# Altium integrated library TI Data Converters Digital to Analog Converter.IntLib: 1533 symbols (part 42 of 99)
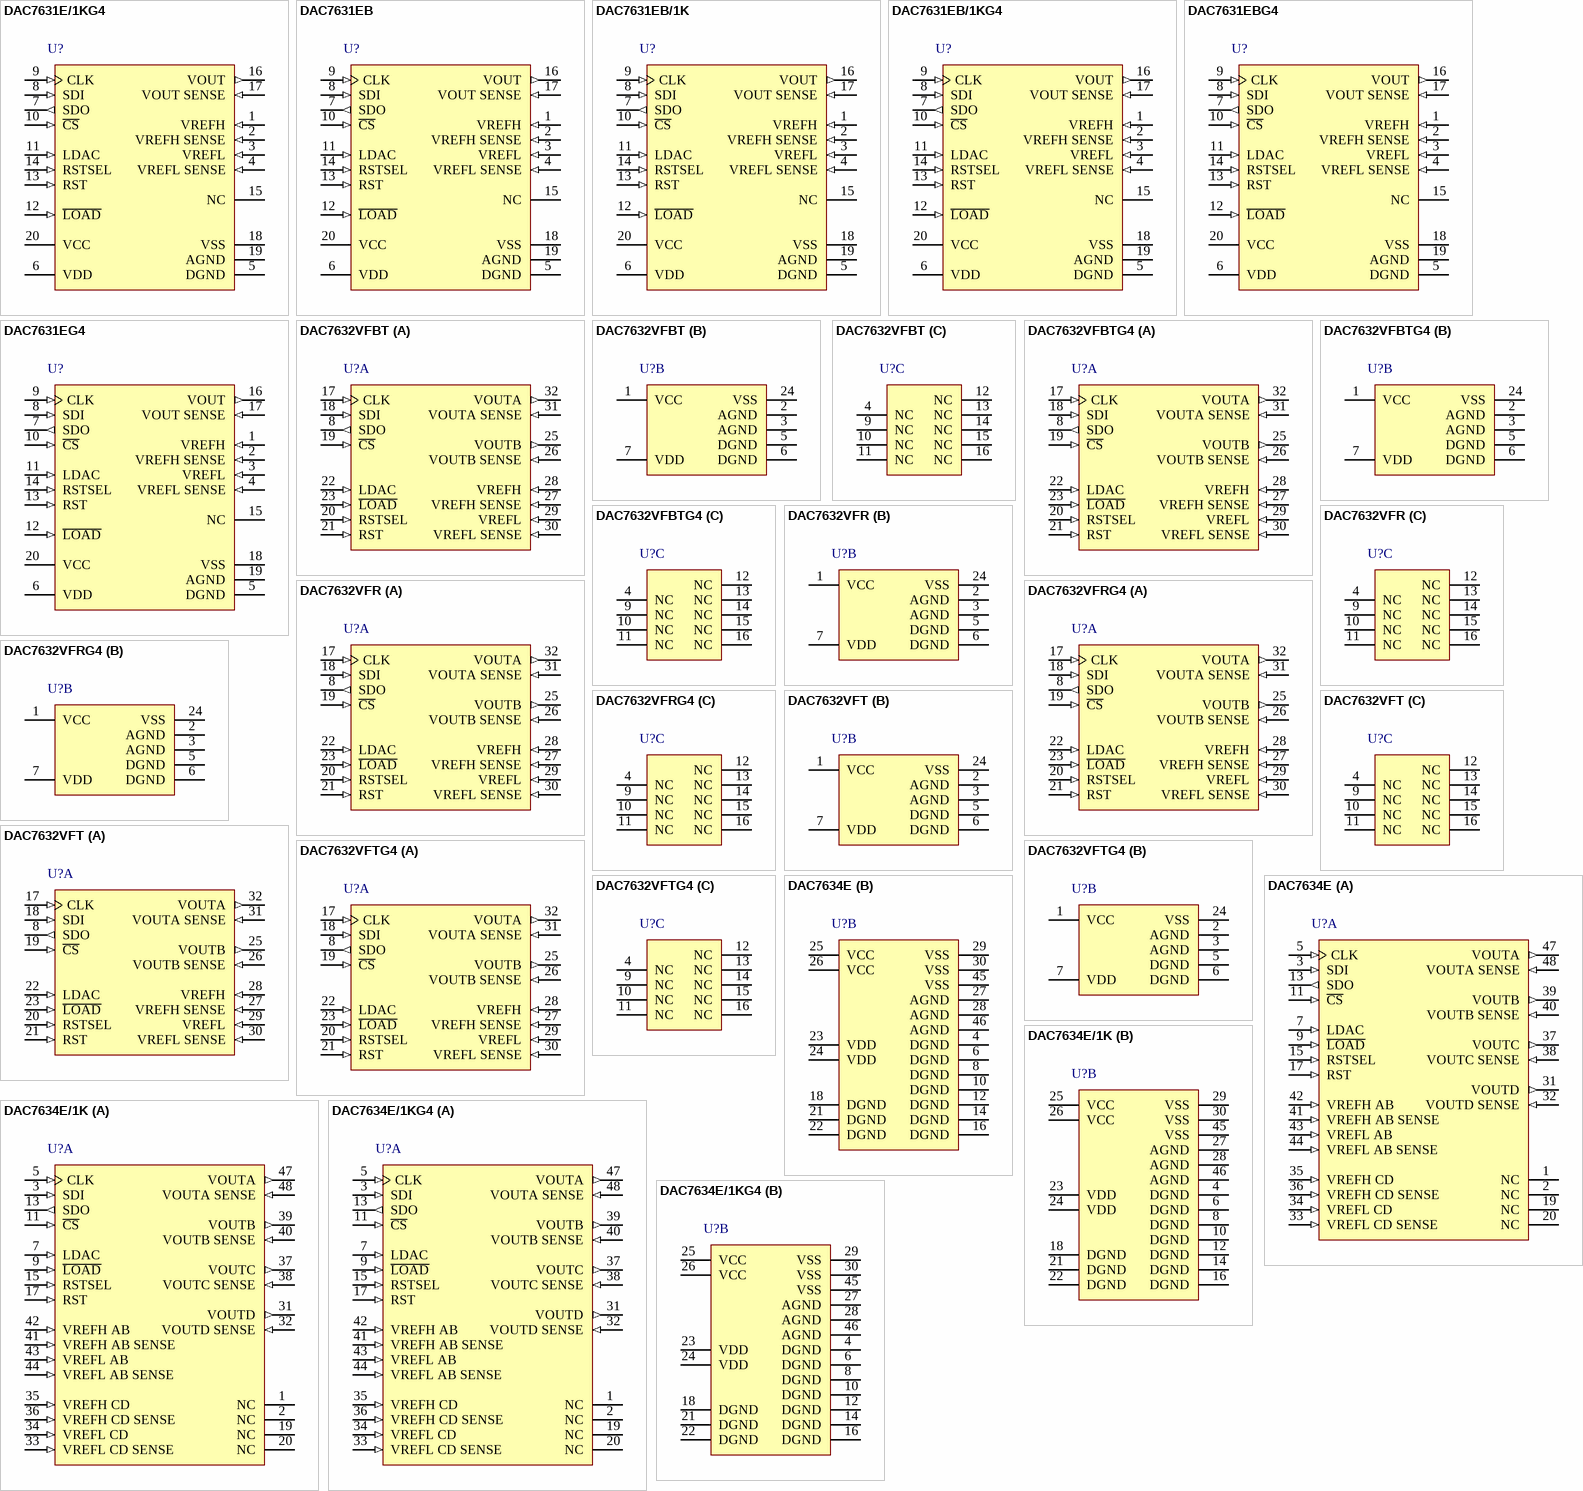
[diagram p114: symbols DAC7631E/1KG4 to DAC7634E/1KG4]

## DAC7631E/1KG4
designator U?
Serial Input, 16-Bit, Voltage Output DAC, -40 to 85 degC, 20-pin SOP (DB20), Green (RoHS & no Sb/Br); Manufacturer: Texas Instruments; PartNumber: DAC7631E/1KG4; DAC Channels: 1; DNL(Max)(+/-LSB): 3; INL(Max)(+/-LSB): 4; Interface: Serial SPI; Power Consumption(Typ)(mW): 1.8; Resolution(Bits): 16; Settling Time(us): 10; SubFamily: Precision DAC (=<10MSPS); DatasheetVersion: SBAS122; PackageVersion: 4040065/E, 12/2001; PackageReference: DB20; PackageDescription: 20-Pin Plastic Small Outline, Body 5.3 x 7.2 mm, Pitch 0.65 mm; Supplier 1: Digi-Key; Supplier Part Number 1: DAC7631E/1KG4-ND; Supplier 2: Mouser; Supplier Part Number 2: 595-DAC7631E/1KG4; Eco-Plan: Green (RoHS & no Sb/Br); Mounting Technology: Surface Mount; Code_JEDEC: MO-150; ComponentLink1Description: Manufacturer URL; ComponentLink1URL: http://www.ti.com/; ComponentLink2Description: Datasheet; ComponentLink2URL: http://www.ti.com/general/docs/lit/getliterature.tsp?genericPartNumber=DAC7631&fileType=pdf; ComponentLink3Description: Package Specification; ComponentLink3URL: http://www.ti.com/lit/ml/msso002e/msso002e.pdf
footprint TI-DB20_N (SOP, 20-Leads, Body 7.2x5.3mm, Pitch 0.65mm, IPC Medium Density)
footprint TI-DB20_L (SOP, 20-Leads, Body 7.2x5.3mm, Pitch 0.65mm, IPC High Density)
footprint TI-DB20_M (SOP, 20-Leads, Body 7.2x5.3mm, Pitch 0.65mm, IPC Low Density)
pins: 1 VREFH (in) "DAC Reference High Input", 2 VREFH SENSE (in) "DAC Reference Sense High Input", 3 VREFL (in) "DAC Reference Low Input", 4 VREFL SENSE (in) "DAC Reference Sense Low Input", 5 DGND (power) "Digital Ground", 6 VDD (power) "Logic Power Supply", 7 SDO (out) "Serial Data Output", 8 SDI (in) "Serial Data Input", 9 CLK (in) "Data Clock", 10 ~{CS} (in) "Chip Select, Active LOW", 11 LDAC (in) "DAC Register Load Control, Rising Edge Triggered.", 12 ~{LOAD} (in) "DAC Input Register Load Control, Active LOW.", 13 RST (in) "Reset, Rising Edge. Depending on the state of RSTSEL, the DAC Register is set to either midscale or zero.", 14 RSTSEL (in) "Reset Select. Determines the action of RST. If HIGH, a RST command will set the DAC register to midscale. If low, a RST command will set the DAC register to zero.", 15 NC "No Connection", 16 VOUT (out) "DAC Voltage Output", 17 VOUT SENSE (in) "DAC Output Amplifier Inverting Input, Used to Close the Feedback Loop at the Load.", 18 VSS (power) "Negative Power Supply", 19 AGND (power) "Analog Ground", 20 VCC (power) "Positive Power Supply"

## DAC7631EB
designator U?
Serial Input, 16-Bit, Voltage Output DAC, -40 to 85 degC, 20-pin SOP (DB20), Green (RoHS & no Sb/Br); Manufacturer: Texas Instruments; PartNumber: DAC7631EB; DAC Channels: 1; DNL(Max)(+/-LSB): 2; INL(Max)(+/-LSB): 3; Interface: Serial SPI; Power Consumption(Typ)(mW): 1.8; Resolution(Bits): 16; Settling Time(us): 10; SubFamily: Precision DAC (=<10MSPS); DatasheetVersion: SBAS122; PackageVersion: 4040065/E, 12/2001; PackageReference: DB20; PackageDescription: 20-Pin Plastic Small Outline, Body 5.3 x 7.2 mm, Pitch 0.65 mm; Supplier 1: Digi-Key; Supplier Part Number 1: DAC7631EB-ND; Supplier 2: Newark; Supplier Part Number 2: 74C9214; Supplier 3: Mouser; Supplier Part Number 3: 595-DAC7631EB; Eco-Plan: Green (RoHS & no Sb/Br); Mounting Technology: Surface Mount; Code_JEDEC: MO-150; ComponentLink1Description: Manufacturer URL; ComponentLink1URL: http://www.ti.com/; ComponentLink2Description: Datasheet; ComponentLink2URL: http://www.ti.com/general/docs/lit/getliterature.tsp?genericPartNumber=DAC7631&fileType=pdf; ComponentLink3Description: Package Specification; ComponentLink3URL: http://www.ti.com/lit/ml/msso002e/msso002e.pdf
footprint TI-DB20_N (SOP, 20-Leads, Body 7.2x5.3mm, Pitch 0.65mm, IPC Medium Density)
footprint TI-DB20_L (SOP, 20-Leads, Body 7.2x5.3mm, Pitch 0.65mm, IPC High Density)
footprint TI-DB20_M (SOP, 20-Leads, Body 7.2x5.3mm, Pitch 0.65mm, IPC Low Density)
pins: 1 VREFH (in) "DAC Reference High Input", 2 VREFH SENSE (in) "DAC Reference Sense High Input", 3 VREFL (in) "DAC Reference Low Input", 4 VREFL SENSE (in) "DAC Reference Sense Low Input", 5 DGND (power) "Digital Ground", 6 VDD (power) "Logic Power Supply", 7 SDO (out) "Serial Data Output", 8 SDI (in) "Serial Data Input", 9 CLK (in) "Data Clock", 10 ~{CS} (in) "Chip Select, Active LOW", 11 LDAC (in) "DAC Register Load Control, Rising Edge Triggered.", 12 ~{LOAD} (in) "DAC Input Register Load Control, Active LOW.", 13 RST (in) "Reset, Rising Edge. Depending on the state of RSTSEL, the DAC Register is set to either midscale or zero.", 14 RSTSEL (in) "Reset Select. Determines the action of RST. If HIGH, a RST command will set the DAC register to midscale. If low, a RST command will set the DAC register to zero.", 15 NC "No Connection", 16 VOUT (out) "DAC Voltage Output", 17 VOUT SENSE (in) "DAC Output Amplifier Inverting Input, Used to Close the Feedback Loop at the Load.", 18 VSS (power) "Negative Power Supply", 19 AGND (power) "Analog Ground", 20 VCC (power) "Positive Power Supply"

## DAC7631EB/1K
designator U?
Serial Input, 16-Bit, Voltage Output DAC, -40 to 85 degC, 20-pin SOP (DB20), Green (RoHS & no Sb/Br); Manufacturer: Texas Instruments; PartNumber: DAC7631EB/1K; DAC Channels: 1; DNL(Max)(+/-LSB): 2; INL(Max)(+/-LSB): 3; Interface: Serial SPI; Power Consumption(Typ)(mW): 1.8; Resolution(Bits): 16; Settling Time(us): 10; SubFamily: Precision DAC (=<10MSPS); DatasheetVersion: SBAS122; PackageVersion: 4040065/E, 12/2001; PackageReference: DB20; PackageDescription: 20-Pin Plastic Small Outline, Body 5.3 x 7.2 mm, Pitch 0.65 mm; Supplier 1: Digi-Key; Supplier Part Number 1: DAC7631EB/1K-ND; Supplier 2: Mouser; Supplier Part Number 2: 595-DAC7631EB/1K; Eco-Plan: Green (RoHS & no Sb/Br); Mounting Technology: Surface Mount; Code_JEDEC: MO-150; ComponentLink1Description: Manufacturer URL; ComponentLink1URL: http://www.ti.com/; ComponentLink2Description: Datasheet; ComponentLink2URL: http://www.ti.com/general/docs/lit/getliterature.tsp?genericPartNumber=DAC7631&fileType=pdf; ComponentLink3Description: Package Specification; ComponentLink3URL: http://www.ti.com/lit/ml/msso002e/msso002e.pdf
footprint TI-DB20_N (SOP, 20-Leads, Body 7.2x5.3mm, Pitch 0.65mm, IPC Medium Density)
footprint TI-DB20_L (SOP, 20-Leads, Body 7.2x5.3mm, Pitch 0.65mm, IPC High Density)
footprint TI-DB20_M (SOP, 20-Leads, Body 7.2x5.3mm, Pitch 0.65mm, IPC Low Density)
pins: 1 VREFH (in) "DAC Reference High Input", 2 VREFH SENSE (in) "DAC Reference Sense High Input", 3 VREFL (in) "DAC Reference Low Input", 4 VREFL SENSE (in) "DAC Reference Sense Low Input", 5 DGND (power) "Digital Ground", 6 VDD (power) "Logic Power Supply", 7 SDO (out) "Serial Data Output", 8 SDI (in) "Serial Data Input", 9 CLK (in) "Data Clock", 10 ~{CS} (in) "Chip Select, Active LOW", 11 LDAC (in) "DAC Register Load Control, Rising Edge Triggered.", 12 ~{LOAD} (in) "DAC Input Register Load Control, Active LOW.", 13 RST (in) "Reset, Rising Edge. Depending on the state of RSTSEL, the DAC Register is set to either midscale or zero.", 14 RSTSEL (in) "Reset Select. Determines the action of RST. If HIGH, a RST command will set the DAC register to midscale. If low, a RST command will set the DAC register to zero.", 15 NC "No Connection", 16 VOUT (out) "DAC Voltage Output", 17 VOUT SENSE (in) "DAC Output Amplifier Inverting Input, Used to Close the Feedback Loop at the Load.", 18 VSS (power) "Negative Power Supply", 19 AGND (power) "Analog Ground", 20 VCC (power) "Positive Power Supply"

## DAC7631EB/1KG4
designator U?
Serial Input, 16-Bit, Voltage Output DAC, -40 to 85 degC, 20-pin SOP (DB20), Green (RoHS & no Sb/Br); Manufacturer: Texas Instruments; PartNumber: DAC7631EB/1KG4; DAC Channels: 1; DNL(Max)(+/-LSB): 2; INL(Max)(+/-LSB): 3; Interface: Serial SPI; Power Consumption(Typ)(mW): 1.8; Resolution(Bits): 16; Settling Time(us): 10; SubFamily: Precision DAC (=<10MSPS); DatasheetVersion: SBAS122; PackageVersion: 4040065/E, 12/2001; PackageReference: DB20; PackageDescription: 20-Pin Plastic Small Outline, Body 5.3 x 7.2 mm, Pitch 0.65 mm; Supplier 1: Digi-Key; Supplier Part Number 1: DAC7631EB/1KG4-ND; Supplier 2: Mouser; Supplier Part Number 2: 595-DAC7631EB/1KG4; Eco-Plan: Green (RoHS & no Sb/Br); Mounting Technology: Surface Mount; Code_JEDEC: MO-150; ComponentLink1Description: Manufacturer URL; ComponentLink1URL: http://www.ti.com/; ComponentLink2Description: Datasheet; ComponentLink2URL: http://www.ti.com/general/docs/lit/getliterature.tsp?genericPartNumber=DAC7631&fileType=pdf; ComponentLink3Description: Package Specification; ComponentLink3URL: http://www.ti.com/lit/ml/msso002e/msso002e.pdf
footprint TI-DB20_N (SOP, 20-Leads, Body 7.2x5.3mm, Pitch 0.65mm, IPC Medium Density)
footprint TI-DB20_L (SOP, 20-Leads, Body 7.2x5.3mm, Pitch 0.65mm, IPC High Density)
footprint TI-DB20_M (SOP, 20-Leads, Body 7.2x5.3mm, Pitch 0.65mm, IPC Low Density)
pins: 1 VREFH (in) "DAC Reference High Input", 2 VREFH SENSE (in) "DAC Reference Sense High Input", 3 VREFL (in) "DAC Reference Low Input", 4 VREFL SENSE (in) "DAC Reference Sense Low Input", 5 DGND (power) "Digital Ground", 6 VDD (power) "Logic Power Supply", 7 SDO (out) "Serial Data Output", 8 SDI (in) "Serial Data Input", 9 CLK (in) "Data Clock", 10 ~{CS} (in) "Chip Select, Active LOW", 11 LDAC (in) "DAC Register Load Control, Rising Edge Triggered.", 12 ~{LOAD} (in) "DAC Input Register Load Control, Active LOW.", 13 RST (in) "Reset, Rising Edge. Depending on the state of RSTSEL, the DAC Register is set to either midscale or zero.", 14 RSTSEL (in) "Reset Select. Determines the action of RST. If HIGH, a RST command will set the DAC register to midscale. If low, a RST command will set the DAC register to zero.", 15 NC "No Connection", 16 VOUT (out) "DAC Voltage Output", 17 VOUT SENSE (in) "DAC Output Amplifier Inverting Input, Used to Close the Feedback Loop at the Load.", 18 VSS (power) "Negative Power Supply", 19 AGND (power) "Analog Ground", 20 VCC (power) "Positive Power Supply"

## DAC7631EBG4
designator U?
Serial Input, 16-Bit, Voltage Output DAC, -40 to 85 degC, 20-pin SOP (DB20), Green (RoHS & no Sb/Br); Manufacturer: Texas Instruments; PartNumber: DAC7631EBG4; DAC Channels: 1; DNL(Max)(+/-LSB): 2; INL(Max)(+/-LSB): 3; Interface: Serial SPI; Power Consumption(Typ)(mW): 1.8; Resolution(Bits): 16; Settling Time(us): 10; SubFamily: Precision DAC (=<10MSPS); DatasheetVersion: SBAS122; PackageVersion: 4040065/E, 12/2001; PackageReference: DB20; PackageDescription: 20-Pin Plastic Small Outline, Body 5.3 x 7.2 mm, Pitch 0.65 mm; Supplier 1: Digi-Key; Supplier Part Number 1: DAC7631EBG4-ND; Supplier 2: Mouser; Supplier Part Number 2: 595-DAC7631EBG4; Eco-Plan: Green (RoHS & no Sb/Br); Mounting Technology: Surface Mount; Code_JEDEC: MO-150; ComponentLink1Description: Manufacturer URL; ComponentLink1URL: http://www.ti.com/; ComponentLink2Description: Datasheet; ComponentLink2URL: http://www.ti.com/general/docs/lit/getliterature.tsp?genericPartNumber=DAC7631&fileType=pdf; ComponentLink3Description: Package Specification; ComponentLink3URL: http://www.ti.com/lit/ml/msso002e/msso002e.pdf
footprint TI-DB20_N (SOP, 20-Leads, Body 7.2x5.3mm, Pitch 0.65mm, IPC Medium Density)
footprint TI-DB20_L (SOP, 20-Leads, Body 7.2x5.3mm, Pitch 0.65mm, IPC High Density)
footprint TI-DB20_M (SOP, 20-Leads, Body 7.2x5.3mm, Pitch 0.65mm, IPC Low Density)
pins: 1 VREFH (in) "DAC Reference High Input", 2 VREFH SENSE (in) "DAC Reference Sense High Input", 3 VREFL (in) "DAC Reference Low Input", 4 VREFL SENSE (in) "DAC Reference Sense Low Input", 5 DGND (power) "Digital Ground", 6 VDD (power) "Logic Power Supply", 7 SDO (out) "Serial Data Output", 8 SDI (in) "Serial Data Input", 9 CLK (in) "Data Clock", 10 ~{CS} (in) "Chip Select, Active LOW", 11 LDAC (in) "DAC Register Load Control, Rising Edge Triggered.", 12 ~{LOAD} (in) "DAC Input Register Load Control, Active LOW.", 13 RST (in) "Reset, Rising Edge. Depending on the state of RSTSEL, the DAC Register is set to either midscale or zero.", 14 RSTSEL (in) "Reset Select. Determines the action of RST. If HIGH, a RST command will set the DAC register to midscale. If low, a RST command will set the DAC register to zero.", 15 NC "No Connection", 16 VOUT (out) "DAC Voltage Output", 17 VOUT SENSE (in) "DAC Output Amplifier Inverting Input, Used to Close the Feedback Loop at the Load.", 18 VSS (power) "Negative Power Supply", 19 AGND (power) "Analog Ground", 20 VCC (power) "Positive Power Supply"

## DAC7631EG4
designator U?
Serial Input, 16-Bit, Voltage Output DAC, -40 to 85 degC, 20-pin SOP (DB20), Green (RoHS & no Sb/Br); Manufacturer: Texas Instruments; PartNumber: DAC7631EG4; DAC Channels: 1; DNL(Max)(+/-LSB): 3; INL(Max)(+/-LSB): 4; Interface: Serial SPI; Power Consumption(Typ)(mW): 1.8; Resolution(Bits): 16; Settling Time(us): 10; SubFamily: Precision DAC (=<10MSPS); DatasheetVersion: SBAS122; PackageVersion: 4040065/E, 12/2001; PackageReference: DB20; PackageDescription: 20-Pin Plastic Small Outline, Body 5.3 x 7.2 mm, Pitch 0.65 mm; Supplier 1: Digi-Key; Supplier Part Number 1: DAC7631EG4-ND; Supplier 2: Mouser; Supplier Part Number 2: 595-DAC7631EG4; Eco-Plan: Green (RoHS & no Sb/Br); Mounting Technology: Surface Mount; Code_JEDEC: MO-150; ComponentLink1Description: Manufacturer URL; ComponentLink1URL: http://www.ti.com/; ComponentLink2Description: Datasheet; ComponentLink2URL: http://www.ti.com/general/docs/lit/getliterature.tsp?genericPartNumber=DAC7631&fileType=pdf; ComponentLink3Description: Package Specification; ComponentLink3URL: http://www.ti.com/lit/ml/msso002e/msso002e.pdf
footprint TI-DB20_N (SOP, 20-Leads, Body 7.2x5.3mm, Pitch 0.65mm, IPC Medium Density)
footprint TI-DB20_L (SOP, 20-Leads, Body 7.2x5.3mm, Pitch 0.65mm, IPC High Density)
footprint TI-DB20_M (SOP, 20-Leads, Body 7.2x5.3mm, Pitch 0.65mm, IPC Low Density)
pins: 1 VREFH (in) "DAC Reference High Input", 2 VREFH SENSE (in) "DAC Reference Sense High Input", 3 VREFL (in) "DAC Reference Low Input", 4 VREFL SENSE (in) "DAC Reference Sense Low Input", 5 DGND (power) "Digital Ground", 6 VDD (power) "Logic Power Supply", 7 SDO (out) "Serial Data Output", 8 SDI (in) "Serial Data Input", 9 CLK (in) "Data Clock", 10 ~{CS} (in) "Chip Select, Active LOW", 11 LDAC (in) "DAC Register Load Control, Rising Edge Triggered.", 12 ~{LOAD} (in) "DAC Input Register Load Control, Active LOW.", 13 RST (in) "Reset, Rising Edge. Depending on the state of RSTSEL, the DAC Register is set to either midscale or zero.", 14 RSTSEL (in) "Reset Select. Determines the action of RST. If HIGH, a RST command will set the DAC register to midscale. If low, a RST command will set the DAC register to zero.", 15 NC "No Connection", 16 VOUT (out) "DAC Voltage Output", 17 VOUT SENSE (in) "DAC Output Amplifier Inverting Input, Used to Close the Feedback Loop at the Load.", 18 VSS (power) "Negative Power Supply", 19 AGND (power) "Analog Ground", 20 VCC (power) "Positive Power Supply"

## DAC7632VFBT
designator U?
16-Bit, Dual Voltage Output DAC with Serial Interface, -40 to 85 degC, 32-pin QFP (VF32), Green (RoHS & no Sb/Br); Manufacturer: Texas Instruments; PartNumber: DAC7632VFBT; DAC Channels: 2; INL(Max)(+/-LSB): 3; Interface: Serial SPI; Power Consumption(Typ)(mW): 2.5; Resolution(Bits): 16; Settling Time(us): 10; SubFamily: Precision DAC (=<10MSPS); DatasheetVersion: SBAS234A; PackageReference: VF32; PackageDescription: 32-Pin Plastic Quad Flatpack, Body 7 x 7 mm, Pitch 0.8 mm; Supplier 1: Digi-Key; Supplier Part Number 1: DAC7632VFBT-ND; Supplier 2: Mouser; Supplier Part Number 2: 595-DAC7632VFBT; DNL(Max)(+/-LSB): 2; Eco-Plan: Green (RoHS & no Sb/Br); Mounting Technology: Surface Mount; ComponentLink1Description: Manufacturer URL; ComponentLink1URL: http://www.ti.com/; ComponentLink2Description: Datasheet; ComponentLink2URL: http://www.ti.com/general/docs/lit/getliterature.tsp?genericPartNumber=DAC7632&fileType=pdf; ComponentLink3Description: Package Specification; ComponentLink3URL: http://www.ti.com/litv/pdf/mtqf002b
footprint TI-VF32_N (QFP, 32-Leads, Body 7x7mm, Pitch 0.8mm, IPC Medium Density)
footprint TI-VF32_L (QFP, 32-Leads, Body 7x7mm, Pitch 0.8mm, IPC High Density)
footprint TI-VF32_M (QFP, 32-Leads, Body 7x7mm, Pitch 0.8mm, IPC Low Density)
part A pins: 8 SDO (out) "Serial Data Output", 17 CLK (in) "Data Clock Input", 18 SDI (in) "Serial Data Input", 19 ~{CS} (in) "Chip Select, Active LOW", 20 RSTSEL (in) "Reset Select. Determines the action of RST. If HIGH, a RST common will set the DAC registers to mid-scale code (8000H). If LOW, a RST command will set the DAC registers to zero-scale code (0000H).", 21 RST (in) "Reset, Rising Edge Triggered. Depending on the state of RSTSEL, the DAC registers are set to either mid-scale code or zero-scale code.", 22 LDAC (in) "DAC Register Load Control, Rising Edge Triggered", 23 ~{LOAD} (in) "DAC Input Register Load Control, Active LOW", 25 VOUTB (out) "DAC B Output Voltage", 26 VOUTB SENSE (in) "DAC B Output Amplifier Inverting Input. Used to close the feedback loop at the load.", 27 VREFH SENSE (in) "DAC A and B Reference High Sense Input", 28 VREFH (in) "DAC A and B Reference High Input", 29 VREFL (in) "DAC A and B Reference Low Input", 30 VREFL SENSE (in) "DAC A and B Reference Low Sense Input", 31 VOUTA SENSE (in) "DAC A Output Amplifier Inverting Input. Used to close the feedback loop at the load.", 32 VOUTA (out) "DAC A Output Voltage"
part B pins: 1 VCC (power) "Analog +5V Power Supply", 2 AGND (power) "Analog Ground", 3 AGND (power) "Analog Ground", 5 DGND (power) "Digital Ground", 6 DGND (power) "Digital Ground", 7 VDD (power) "Digital +5V Power Supply", 24 VSS (power) "Analog -5V Power Supply (or 0V for Single Supply)"
part C pins: 4 NC "No Connection", 9 NC "No Connection", 10 NC "No Connection", 11 NC "No Connection", 12 NC "No Connection", 13 NC "No Connection", 14 NC "No Connection", 15 NC "No Connection", 16 NC "No Connection"

## DAC7632VFBTG4
designator U?
16-Bit, Dual Voltage Output DAC with Serial Interface, -40 to 85 degC, 32-pin QFP (VF32), Green (RoHS & no Sb/Br); Manufacturer: Texas Instruments; PartNumber: DAC7632VFBTG4; DAC Channels: 2; INL(Max)(+/-LSB): 3; Interface: Serial SPI; Power Consumption(Typ)(mW): 2.5; Resolution(Bits): 16; Settling Time(us): 10; SubFamily: Precision DAC (=<10MSPS); DatasheetVersion: SBAS234A; PackageReference: VF32; PackageDescription: 32-Pin Plastic Quad Flatpack, Body 7 x 7 mm, Pitch 0.8 mm; Supplier 1: Digi-Key; Supplier Part Number 1: DAC7632VFBTG4-ND; Supplier 2: Newark; Supplier Part Number 2: 30M0644; Supplier 3: Mouser; Supplier Part Number 3: 595-DAC7632VFBTG4; DNL(Max)(+/-LSB): 2; Eco-Plan: Green (RoHS & no Sb/Br); Mounting Technology: Surface Mount; ComponentLink1Description: Manufacturer URL; ComponentLink1URL: http://www.ti.com/; ComponentLink2Description: Datasheet; ComponentLink2URL: http://www.ti.com/general/docs/lit/getliterature.tsp?genericPartNumber=DAC7632&fileType=pdf; ComponentLink3Description: Package Specification; ComponentLink3URL: http://www.ti.com/litv/pdf/mtqf002b
footprint TI-VF32_N (QFP, 32-Leads, Body 7x7mm, Pitch 0.8mm, IPC Medium Density)
footprint TI-VF32_L (QFP, 32-Leads, Body 7x7mm, Pitch 0.8mm, IPC High Density)
footprint TI-VF32_M (QFP, 32-Leads, Body 7x7mm, Pitch 0.8mm, IPC Low Density)
part A pins: 8 SDO (out) "Serial Data Output", 17 CLK (in) "Data Clock Input", 18 SDI (in) "Serial Data Input", 19 ~{CS} (in) "Chip Select, Active LOW", 20 RSTSEL (in) "Reset Select. Determines the action of RST. If HIGH, a RST common will set the DAC registers to mid-scale code (8000H). If LOW, a RST command will set the DAC registers to zero-scale code (0000H).", 21 RST (in) "Reset, Rising Edge Triggered. Depending on the state of RSTSEL, the DAC registers are set to either mid-scale code or zero-scale code.", 22 LDAC (in) "DAC Register Load Control, Rising Edge Triggered", 23 ~{LOAD} (in) "DAC Input Register Load Control, Active LOW", 25 VOUTB (out) "DAC B Output Voltage", 26 VOUTB SENSE (in) "DAC B Output Amplifier Inverting Input. Used to close the feedback loop at the load.", 27 VREFH SENSE (in) "DAC A and B Reference High Sense Input", 28 VREFH (in) "DAC A and B Reference High Input", 29 VREFL (in) "DAC A and B Reference Low Input", 30 VREFL SENSE (in) "DAC A and B Reference Low Sense Input", 31 VOUTA SENSE (in) "DAC A Output Amplifier Inverting Input. Used to close the feedback loop at the load.", 32 VOUTA (out) "DAC A Output Voltage"
part B pins: 1 VCC (power) "Analog +5V Power Supply", 2 AGND (power) "Analog Ground", 3 AGND (power) "Analog Ground", 5 DGND (power) "Digital Ground", 6 DGND (power) "Digital Ground", 7 VDD (power) "Digital +5V Power Supply", 24 VSS (power) "Analog -5V Power Supply (or 0V for Single Supply)"
part C pins: 4 NC "No Connection", 9 NC "No Connection", 10 NC "No Connection", 11 NC "No Connection", 12 NC "No Connection", 13 NC "No Connection", 14 NC "No Connection", 15 NC "No Connection", 16 NC "No Connection"

## DAC7632VFR
designator U?
16-Bit, Dual Voltage Output DAC with Serial Interface, -40 to 85 degC, 32-pin QFP (VF32), Green (RoHS & no Sb/Br); Manufacturer: Texas Instruments; PartNumber: DAC7632VFR; DAC Channels: 2; DNL(Max)(+/-LSB): 3; INL(Max)(+/-LSB): 4; Interface: Serial SPI; Power Consumption(Typ)(mW): 2.5; Resolution(Bits): 16; Settling Time(us): 10; SubFamily: Precision DAC (=<10MSPS); DatasheetVersion: SBAS234A; PackageReference: VF32; PackageDescription: 32-Pin Plastic Quad Flatpack, Body 7 x 7 mm, Pitch 0.8 mm; Supplier 1: Digi-Key; Supplier Part Number 1: 296-12630-2-ND; Supplier 2: Digi-Key; Supplier Part Number 2: 296-12630-1-ND; Supplier 3: Digi-Key; Supplier Part Number 3: 296-12630-6-ND; Supplier 4: Mouser; Supplier Part Number 4: 595-DAC7632VFR; Eco-Plan: Green (RoHS & no Sb/Br); Mounting Technology: Surface Mount; ComponentLink1Description: Manufacturer URL; ComponentLink1URL: http://www.ti.com/; ComponentLink2Description: Datasheet; ComponentLink2URL: http://www.ti.com/general/docs/lit/getliterature.tsp?genericPartNumber=DAC7632&fileType=pdf; ComponentLink3Description: Package Specification; ComponentLink3URL: http://www.ti.com/litv/pdf/mtqf002b
footprint TI-VF32_N (QFP, 32-Leads, Body 7x7mm, Pitch 0.8mm, IPC Medium Density)
footprint TI-VF32_L (QFP, 32-Leads, Body 7x7mm, Pitch 0.8mm, IPC High Density)
footprint TI-VF32_M (QFP, 32-Leads, Body 7x7mm, Pitch 0.8mm, IPC Low Density)
part A pins: 8 SDO (out) "Serial Data Output", 17 CLK (in) "Data Clock Input", 18 SDI (in) "Serial Data Input", 19 ~{CS} (in) "Chip Select, Active LOW", 20 RSTSEL (in) "Reset Select. Determines the action of RST. If HIGH, a RST common will set the DAC registers to mid-scale code (8000H). If LOW, a RST command will set the DAC registers to zero-scale code (0000H).", 21 RST (in) "Reset, Rising Edge Triggered. Depending on the state of RSTSEL, the DAC registers are set to either mid-scale code or zero-scale code.", 22 LDAC (in) "DAC Register Load Control, Rising Edge Triggered", 23 ~{LOAD} (in) "DAC Input Register Load Control, Active LOW", 25 VOUTB (out) "DAC B Output Voltage", 26 VOUTB SENSE (in) "DAC B Output Amplifier Inverting Input. Used to close the feedback loop at the load.", 27 VREFH SENSE (in) "DAC A and B Reference High Sense Input", 28 VREFH (in) "DAC A and B Reference High Input", 29 VREFL (in) "DAC A and B Reference Low Input", 30 VREFL SENSE (in) "DAC A and B Reference Low Sense Input", 31 VOUTA SENSE (in) "DAC A Output Amplifier Inverting Input. Used to close the feedback loop at the load.", 32 VOUTA (out) "DAC A Output Voltage"
part B pins: 1 VCC (power) "Analog +5V Power Supply", 2 AGND (power) "Analog Ground", 3 AGND (power) "Analog Ground", 5 DGND (power) "Digital Ground", 6 DGND (power) "Digital Ground", 7 VDD (power) "Digital +5V Power Supply", 24 VSS (power) "Analog -5V Power Supply (or 0V for Single Supply)"
part C pins: 4 NC "No Connection", 9 NC "No Connection", 10 NC "No Connection", 11 NC "No Connection", 12 NC "No Connection", 13 NC "No Connection", 14 NC "No Connection", 15 NC "No Connection", 16 NC "No Connection"

## DAC7632VFRG4
designator U?
16-Bit, Dual Voltage Output DAC with Serial Interface, -40 to 85 degC, 32-pin QFP (VF32), Green (RoHS & no Sb/Br); Manufacturer: Texas Instruments; PartNumber: DAC7632VFRG4; DAC Channels: 2; DNL(Max)(+/-LSB): 3; INL(Max)(+/-LSB): 4; Interface: Serial SPI; Power Consumption(Typ)(mW): 2.5; Resolution(Bits): 16; Settling Time(us): 10; SubFamily: Precision DAC (=<10MSPS); DatasheetVersion: SBAS234A; PackageReference: VF32; PackageDescription: 32-Pin Plastic Quad Flatpack, Body 7 x 7 mm, Pitch 0.8 mm; Supplier 1: Digi-Key; Supplier Part Number 1: DAC7632VFRG4-ND; Supplier 2: Mouser; Supplier Part Number 2: 595-DAC7632VFRG4; Eco-Plan: Green (RoHS & no Sb/Br); Mounting Technology: Surface Mount; ComponentLink1Description: Manufacturer URL; ComponentLink1URL: http://www.ti.com/; ComponentLink2Description: Datasheet; ComponentLink2URL: http://www.ti.com/general/docs/lit/getliterature.tsp?genericPartNumber=DAC7632&fileType=pdf; ComponentLink3Description: Package Specification; ComponentLink3URL: http://www.ti.com/litv/pdf/mtqf002b
footprint TI-VF32_N (QFP, 32-Leads, Body 7x7mm, Pitch 0.8mm, IPC Medium Density)
footprint TI-VF32_L (QFP, 32-Leads, Body 7x7mm, Pitch 0.8mm, IPC High Density)
footprint TI-VF32_M (QFP, 32-Leads, Body 7x7mm, Pitch 0.8mm, IPC Low Density)
part A pins: 8 SDO (out) "Serial Data Output", 17 CLK (in) "Data Clock Input", 18 SDI (in) "Serial Data Input", 19 ~{CS} (in) "Chip Select, Active LOW", 20 RSTSEL (in) "Reset Select. Determines the action of RST. If HIGH, a RST common will set the DAC registers to mid-scale code (8000H). If LOW, a RST command will set the DAC registers to zero-scale code (0000H).", 21 RST (in) "Reset, Rising Edge Triggered. Depending on the state of RSTSEL, the DAC registers are set to either mid-scale code or zero-scale code.", 22 LDAC (in) "DAC Register Load Control, Rising Edge Triggered", 23 ~{LOAD} (in) "DAC Input Register Load Control, Active LOW", 25 VOUTB (out) "DAC B Output Voltage", 26 VOUTB SENSE (in) "DAC B Output Amplifier Inverting Input. Used to close the feedback loop at the load.", 27 VREFH SENSE (in) "DAC A and B Reference High Sense Input", 28 VREFH (in) "DAC A and B Reference High Input", 29 VREFL (in) "DAC A and B Reference Low Input", 30 VREFL SENSE (in) "DAC A and B Reference Low Sense Input", 31 VOUTA SENSE (in) "DAC A Output Amplifier Inverting Input. Used to close the feedback loop at the load.", 32 VOUTA (out) "DAC A Output Voltage"
part B pins: 1 VCC (power) "Analog +5V Power Supply", 2 AGND (power) "Analog Ground", 3 AGND (power) "Analog Ground", 5 DGND (power) "Digital Ground", 6 DGND (power) "Digital Ground", 7 VDD (power) "Digital +5V Power Supply", 24 VSS (power) "Analog -5V Power Supply (or 0V for Single Supply)"
part C pins: 4 NC "No Connection", 9 NC "No Connection", 10 NC "No Connection", 11 NC "No Connection", 12 NC "No Connection", 13 NC "No Connection", 14 NC "No Connection", 15 NC "No Connection", 16 NC "No Connection"

## DAC7632VFT
designator U?
16-Bit, Dual Voltage Output DAC with Serial Interface, -40 to 85 degC, 32-pin QFP (VF32), Green (RoHS & no Sb/Br); Manufacturer: Texas Instruments; PartNumber: DAC7632VFT; DAC Channels: 2; DNL(Max)(+/-LSB): 3; INL(Max)(+/-LSB): 4; Interface: Serial SPI; Power Consumption(Typ)(mW): 2.5; Resolution(Bits): 16; Settling Time(us): 10; SubFamily: Precision DAC (=<10MSPS); DatasheetVersion: SBAS234A; PackageReference: VF32; PackageDescription: 32-Pin Plastic Quad Flatpack, Body 7 x 7 mm, Pitch 0.8 mm; Supplier 1: Digi-Key; Supplier Part Number 1: DAC7632VFT-ND; Supplier 2: Mouser; Supplier Part Number 2: 595-DAC7632VFT; Eco-Plan: Green (RoHS & no Sb/Br); Mounting Technology: Surface Mount; ComponentLink1Description: Manufacturer URL; ComponentLink1URL: http://www.ti.com/; ComponentLink2Description: Datasheet; ComponentLink2URL: http://www.ti.com/general/docs/lit/getliterature.tsp?genericPartNumber=DAC7632&fileType=pdf; ComponentLink3Description: Package Specification; ComponentLink3URL: http://www.ti.com/litv/pdf/mtqf002b
footprint TI-VF32_N (QFP, 32-Leads, Body 7x7mm, Pitch 0.8mm, IPC Medium Density)
footprint TI-VF32_L (QFP, 32-Leads, Body 7x7mm, Pitch 0.8mm, IPC High Density)
footprint TI-VF32_M (QFP, 32-Leads, Body 7x7mm, Pitch 0.8mm, IPC Low Density)
part A pins: 8 SDO (out) "Serial Data Output", 17 CLK (in) "Data Clock Input", 18 SDI (in) "Serial Data Input", 19 ~{CS} (in) "Chip Select, Active LOW", 20 RSTSEL (in) "Reset Select. Determines the action of RST. If HIGH, a RST common will set the DAC registers to mid-scale code (8000H). If LOW, a RST command will set the DAC registers to zero-scale code (0000H).", 21 RST (in) "Reset, Rising Edge Triggered. Depending on the state of RSTSEL, the DAC registers are set to either mid-scale code or zero-scale code.", 22 LDAC (in) "DAC Register Load Control, Rising Edge Triggered", 23 ~{LOAD} (in) "DAC Input Register Load Control, Active LOW", 25 VOUTB (out) "DAC B Output Voltage", 26 VOUTB SENSE (in) "DAC B Output Amplifier Inverting Input. Used to close the feedback loop at the load.", 27 VREFH SENSE (in) "DAC A and B Reference High Sense Input", 28 VREFH (in) "DAC A and B Reference High Input", 29 VREFL (in) "DAC A and B Reference Low Input", 30 VREFL SENSE (in) "DAC A and B Reference Low Sense Input", 31 VOUTA SENSE (in) "DAC A Output Amplifier Inverting Input. Used to close the feedback loop at the load.", 32 VOUTA (out) "DAC A Output Voltage"
part B pins: 1 VCC (power) "Analog +5V Power Supply", 2 AGND (power) "Analog Ground", 3 AGND (power) "Analog Ground", 5 DGND (power) "Digital Ground", 6 DGND (power) "Digital Ground", 7 VDD (power) "Digital +5V Power Supply", 24 VSS (power) "Analog -5V Power Supply (or 0V for Single Supply)"
part C pins: 4 NC "No Connection", 9 NC "No Connection", 10 NC "No Connection", 11 NC "No Connection", 12 NC "No Connection", 13 NC "No Connection", 14 NC "No Connection", 15 NC "No Connection", 16 NC "No Connection"

## DAC7632VFTG4
designator U?
16-Bit, Dual Voltage Output DAC with Serial Interface, -40 to 85 degC, 32-pin QFP (VF32), Green (RoHS & no Sb/Br); Manufacturer: Texas Instruments; PartNumber: DAC7632VFTG4; DAC Channels: 2; DNL(Max)(+/-LSB): 3; INL(Max)(+/-LSB): 4; Interface: Serial SPI; Power Consumption(Typ)(mW): 2.5; Resolution(Bits): 16; Settling Time(us): 10; SubFamily: Precision DAC (=<10MSPS); DatasheetVersion: SBAS234A; PackageReference: VF32; PackageDescription: 32-Pin Plastic Quad Flatpack, Body 7 x 7 mm, Pitch 0.8 mm; Supplier 1: Digi-Key; Supplier Part Number 1: DAC7632VFTG4-ND; Supplier 2: Mouser; Supplier Part Number 2: 595-DAC7632VFTG4; Eco-Plan: Green (RoHS & no Sb/Br); Mounting Technology: Surface Mount; ComponentLink1Description: Manufacturer URL; ComponentLink1URL: http://www.ti.com/; ComponentLink2Description: Datasheet; ComponentLink2URL: http://www.ti.com/general/docs/lit/getliterature.tsp?genericPartNumber=DAC7632&fileType=pdf; ComponentLink3Description: Package Specification; ComponentLink3URL: http://www.ti.com/litv/pdf/mtqf002b
footprint TI-VF32_N (QFP, 32-Leads, Body 7x7mm, Pitch 0.8mm, IPC Medium Density)
footprint TI-VF32_L (QFP, 32-Leads, Body 7x7mm, Pitch 0.8mm, IPC High Density)
footprint TI-VF32_M (QFP, 32-Leads, Body 7x7mm, Pitch 0.8mm, IPC Low Density)
part A pins: 8 SDO (out) "Serial Data Output", 17 CLK (in) "Data Clock Input", 18 SDI (in) "Serial Data Input", 19 ~{CS} (in) "Chip Select, Active LOW", 20 RSTSEL (in) "Reset Select. Determines the action of RST. If HIGH, a RST common will set the DAC registers to mid-scale code (8000H). If LOW, a RST command will set the DAC registers to zero-scale code (0000H).", 21 RST (in) "Reset, Rising Edge Triggered. Depending on the state of RSTSEL, the DAC registers are set to either mid-scale code or zero-scale code.", 22 LDAC (in) "DAC Register Load Control, Rising Edge Triggered", 23 ~{LOAD} (in) "DAC Input Register Load Control, Active LOW", 25 VOUTB (out) "DAC B Output Voltage", 26 VOUTB SENSE (in) "DAC B Output Amplifier Inverting Input. Used to close the feedback loop at the load.", 27 VREFH SENSE (in) "DAC A and B Reference High Sense Input", 28 VREFH (in) "DAC A and B Reference High Input", 29 VREFL (in) "DAC A and B Reference Low Input", 30 VREFL SENSE (in) "DAC A and B Reference Low Sense Input", 31 VOUTA SENSE (in) "DAC A Output Amplifier Inverting Input. Used to close the feedback loop at the load.", 32 VOUTA (out) "DAC A Output Voltage"
part B pins: 1 VCC (power) "Analog +5V Power Supply", 2 AGND (power) "Analog Ground", 3 AGND (power) "Analog Ground", 5 DGND (power) "Digital Ground", 6 DGND (power) "Digital Ground", 7 VDD (power) "Digital +5V Power Supply", 24 VSS (power) "Analog -5V Power Supply (or 0V for Single Supply)"
part C pins: 4 NC "No Connection", 9 NC "No Connection", 10 NC "No Connection", 11 NC "No Connection", 12 NC "No Connection", 13 NC "No Connection", 14 NC "No Connection", 15 NC "No Connection", 16 NC "No Connection"

## DAC7634E
designator U?
16-Bit, Quad Voltage Output DAC, -40 to 85 degC, 48-pin SOP (DL48), Green (RoHS & no Sb/Br); Manufacturer: Texas Instruments; PartNumber: DAC7634E; DAC Channels: 4; DNL(Max)(+/-LSB): 3; Interface: Serial SPI; Power Consumption(Typ)(mW): 15; Resolution(Bits): 16; Settling Time(us): 10; SubFamily: Precision DAC (=<10MSPS); DatasheetVersion: SBAS134B; PackageVersion: 4040048/E, 12/2001; PackageReference: DL48; PackageDescription: 48-Pin Plastic Small Outline, Body 7.49 x 15.88 mm, Pitch 0.635 mm; Supplier 1: Digi-Key; Supplier Part Number 1: DAC7634E-ND; Supplier 2: Farnell; Supplier Part Number 2: 1214359; Supplier 3: Newark; Supplier Part Number 3: 35C1644; Supplier 4: Mouser; Supplier Part Number 4: 595-DAC7634E; Eco-Plan: Green (RoHS & no Sb/Br); INL(Max)(+/-LSB): 4; Mounting Technology: Surface Mount; Code_JEDEC: MO-118; ComponentLink1Description: Manufacturer URL; ComponentLink1URL: http://www.ti.com/; ComponentLink2Description: Datasheet; ComponentLink2URL: http://www.ti.com/general/docs/lit/getliterature.tsp?genericPartNumber=DAC7634&fileType=pdf; ComponentLink3Description: Package Specification; ComponentLink3URL: http://www.ti.com/lit/ml/msso001c/msso001c.pdf
footprint TI-DL48_N (SOP, 48-Leads, Body 15.88x7.49mm, Pitch 0.635mm, IPC Medium Density)
footprint TI-DL48_L (SOP, 48-Leads, Body 15.88x7.49mm, Pitch 0.635mm, IPC High Density)
footprint TI-DL48_M (SOP, 48-Leads, Body 15.88x7.49mm, Pitch 0.635mm, IPC Low Density)
part A pins: 1 NC "No connection", 2 NC "No connection", 3 SDI (in) "Serial data input", 5 CLK (in) "Data clock input", 7 LDAC (in) "DAC register load control, rising edge triggered", 9 ~{LOAD} (in) "DAC input register load control, active low", 11 ~{CS} (in) "Chip select, active low", 13 SDO (out) "Serial data output", 15 RSTSEL (in) "Reset Select. Determines the action of RST. If  HIGH, a RST common sets the DAC registers to mid-scale (8000 H). If LOW, a RST command sets the DAC registers to zero (0000H).", 17 RST (in) "Reset, rising edge triggered. Depending on the state of RSTSEL, the DAC registers are set to either mid-scale or zero.", 19 NC "No connection", 20 NC "No connection", 31 VOUTD (out) "DAC D output voltage", 32 VOUTD SENSE (in) "DAC D's output amplifier inverting input. Used to close feedback loop at load.", 33 VREFL CD SENSE (in) "DAC C and D reference low sense input", 34 VREFL CD (in) "DAC C and D reference low input", 35 VREFH CD (in) "DAC C and D reference high input", 36 VREFH CD SENSE (in) "DAC C and D reference high sense input", 37 VOUTC (out) "DAC C output voltage", 38 VOUTC SENSE (in) "DAC C's output amplifier inverting input. Used to close the feedback loop at the load.", 39 VOUTB (out) "DAC B output voltage", 40 VOUTB SENSE (in) "DAC B's output amplifier inverting input. Used to close the feedback loop at the load.", 41 VREFH AB SENSE (in) "DAC A and B reference high sense input", 42 VREFH AB (in) "DAC A and B reference high input", 43 VREFL AB (in) "DAC A and B reference low input", 44 VREFL AB SENSE (in) "DAC A and B reference low sense input", 47 VOUTA (out) "DAC A output voltage", 48 VOUTA SENSE (in) "DAC A's output amplifier inverting input. Used to close the feedback loop at the load."
part B pins: 4 DGND (power) "Digital ground", 6 DGND (power) "Digital ground", 8 DGND (power) "Digital ground", 10 DGND (power) "Digital ground", 12 DGND (power) "Digital ground", 14 DGND (power) "Digital ground", 16 DGND (power) "Digital ground", 18 DGND (power) "Digital ground", 21 DGND (power) "Digital ground", 22 DGND (power) "Digital ground", 23 VDD (power) "Digital 5-V power supply", 24 VDD (power) "Digital 5-V power supply", 25 VCC (power) "Analog +5-V power supply", 26 VCC (power) "Analog +5-V power supply", 27 AGND (power) "Analog ground", 28 AGND (power) "Analog ground", 29 VSS (power) "Analog +5V power supply or 0V single supply", 30 VSS (power) "Analog +5V power supply or 0V single supply", 45 VSS (power) "Analog -5V power supply or 0V single supply", 46 AGND (power) "Analog ground"

## DAC7634E/1K
designator U?
16-Bit, Quad Voltage Output DAC, -40 to 85 degC, 48-pin SOP (DL48), Green (RoHS & no Sb/Br); Manufacturer: Texas Instruments; PartNumber: DAC7634E/1K; DAC Channels: 4; DNL(Max)(+/-LSB): 3; Interface: Serial SPI; Power Consumption(Typ)(mW): 15; Resolution(Bits): 16; Settling Time(us): 10; SubFamily: Precision DAC (=<10MSPS); DatasheetVersion: SBAS134B; PackageVersion: 4040048/E, 12/2001; PackageReference: DL48; PackageDescription: 48-Pin Plastic Small Outline, Body 7.49 x 15.88 mm, Pitch 0.635 mm; Supplier 1: Digi-Key; Supplier Part Number 1: DAC7634E/1K-ND; Supplier 2: Mouser; Supplier Part Number 2: 595-DAC7634E/1K; Eco-Plan: Green (RoHS & no Sb/Br); INL(Max)(+/-LSB): 4; Mounting Technology: Surface Mount; Code_JEDEC: MO-118; ComponentLink1Description: Manufacturer URL; ComponentLink1URL: http://www.ti.com/; ComponentLink2Description: Datasheet; ComponentLink2URL: http://www.ti.com/general/docs/lit/getliterature.tsp?genericPartNumber=DAC7634&fileType=pdf; ComponentLink3Description: Package Specification; ComponentLink3URL: http://www.ti.com/lit/ml/msso001c/msso001c.pdf
footprint TI-DL48_N (SOP, 48-Leads, Body 15.88x7.49mm, Pitch 0.635mm, IPC Medium Density)
footprint TI-DL48_L (SOP, 48-Leads, Body 15.88x7.49mm, Pitch 0.635mm, IPC High Density)
footprint TI-DL48_M (SOP, 48-Leads, Body 15.88x7.49mm, Pitch 0.635mm, IPC Low Density)
part A pins: 1 NC "No connection", 2 NC "No connection", 3 SDI (in) "Serial data input", 5 CLK (in) "Data clock input", 7 LDAC (in) "DAC register load control, rising edge triggered", 9 ~{LOAD} (in) "DAC input register load control, active low", 11 ~{CS} (in) "Chip select, active low", 13 SDO (out) "Serial data output", 15 RSTSEL (in) "Reset Select. Determines the action of RST. If  HIGH, a RST common sets the DAC registers to mid-scale (8000 H). If LOW, a RST command sets the DAC registers to zero (0000H).", 17 RST (in) "Reset, rising edge triggered. Depending on the state of RSTSEL, the DAC registers are set to either mid-scale or zero.", 19 NC "No connection", 20 NC "No connection", 31 VOUTD (out) "DAC D output voltage", 32 VOUTD SENSE (in) "DAC D's output amplifier inverting input. Used to close feedback loop at load.", 33 VREFL CD SENSE (in) "DAC C and D reference low sense input", 34 VREFL CD (in) "DAC C and D reference low input", 35 VREFH CD (in) "DAC C and D reference high input", 36 VREFH CD SENSE (in) "DAC C and D reference high sense input", 37 VOUTC (out) "DAC C output voltage", 38 VOUTC SENSE (in) "DAC C's output amplifier inverting input. Used to close the feedback loop at the load.", 39 VOUTB (out) "DAC B output voltage", 40 VOUTB SENSE (in) "DAC B's output amplifier inverting input. Used to close the feedback loop at the load.", 41 VREFH AB SENSE (in) "DAC A and B reference high sense input", 42 VREFH AB (in) "DAC A and B reference high input", 43 VREFL AB (in) "DAC A and B reference low input", 44 VREFL AB SENSE (in) "DAC A and B reference low sense input", 47 VOUTA (out) "DAC A output voltage", 48 VOUTA SENSE (in) "DAC A's output amplifier inverting input. Used to close the feedback loop at the load."
part B pins: 4 DGND (power) "Digital ground", 6 DGND (power) "Digital ground", 8 DGND (power) "Digital ground", 10 DGND (power) "Digital ground", 12 DGND (power) "Digital ground", 14 DGND (power) "Digital ground", 16 DGND (power) "Digital ground", 18 DGND (power) "Digital ground", 21 DGND (power) "Digital ground", 22 DGND (power) "Digital ground", 23 VDD (power) "Digital 5-V power supply", 24 VDD (power) "Digital 5-V power supply", 25 VCC (power) "Analog +5-V power supply", 26 VCC (power) "Analog +5-V power supply", 27 AGND (power) "Analog ground", 28 AGND (power) "Analog ground", 29 VSS (power) "Analog +5V power supply or 0V single supply", 30 VSS (power) "Analog +5V power supply or 0V single supply", 45 VSS (power) "Analog -5V power supply or 0V single supply", 46 AGND (power) "Analog ground"

## DAC7634E/1KG4
designator U?
16-Bit, Quad Voltage Output DAC, -40 to 85 degC, 48-pin SOP (DL48), Green (RoHS & no Sb/Br); Manufacturer: Texas Instruments; PartNumber: DAC7634E/1KG4; DAC Channels: 4; DNL(Max)(+/-LSB): 3; Interface: Serial SPI; Power Consumption(Typ)(mW): 15; Resolution(Bits): 16; Settling Time(us): 10; SubFamily: Precision DAC (=<10MSPS); DatasheetVersion: SBAS134B; PackageVersion: 4040048/E, 12/2001; PackageReference: DL48; PackageDescription: 48-Pin Plastic Small Outline, Body 7.49 x 15.88 mm, Pitch 0.635 mm; Supplier 1: Digi-Key; Supplier Part Number 1: DAC7634E/1KG4-ND; Supplier 2: Newark; Supplier Part Number 2: 26M9113; Supplier 3: Mouser; Supplier Part Number 3: 595-DAC7634E/1KG4; Eco-Plan: Green (RoHS & no Sb/Br); INL(Max)(+/-LSB): 4; Mounting Technology: Surface Mount; Code_JEDEC: MO-118; ComponentLink1Description: Manufacturer URL; ComponentLink1URL: http://www.ti.com/; ComponentLink2Description: Datasheet; ComponentLink2URL: http://www.ti.com/general/docs/lit/getliterature.tsp?genericPartNumber=DAC7634&fileType=pdf; ComponentLink3Description: Package Specification; ComponentLink3URL: http://www.ti.com/lit/ml/msso001c/msso001c.pdf
footprint TI-DL48_N (SOP, 48-Leads, Body 15.88x7.49mm, Pitch 0.635mm, IPC Medium Density)
footprint TI-DL48_L (SOP, 48-Leads, Body 15.88x7.49mm, Pitch 0.635mm, IPC High Density)
footprint TI-DL48_M (SOP, 48-Leads, Body 15.88x7.49mm, Pitch 0.635mm, IPC Low Density)
part A pins: 1 NC "No connection", 2 NC "No connection", 3 SDI (in) "Serial data input", 5 CLK (in) "Data clock input", 7 LDAC (in) "DAC register load control, rising edge triggered", 9 ~{LOAD} (in) "DAC input register load control, active low", 11 ~{CS} (in) "Chip select, active low", 13 SDO (out) "Serial data output", 15 RSTSEL (in) "Reset Select. Determines the action of RST. If  HIGH, a RST common sets the DAC registers to mid-scale (8000 H). If LOW, a RST command sets the DAC registers to zero (0000H).", 17 RST (in) "Reset, rising edge triggered. Depending on the state of RSTSEL, the DAC registers are set to either mid-scale or zero.", 19 NC "No connection", 20 NC "No connection", 31 VOUTD (out) "DAC D output voltage", 32 VOUTD SENSE (in) "DAC D's output amplifier inverting input. Used to close feedback loop at load.", 33 VREFL CD SENSE (in) "DAC C and D reference low sense input", 34 VREFL CD (in) "DAC C and D reference low input", 35 VREFH CD (in) "DAC C and D reference high input", 36 VREFH CD SENSE (in) "DAC C and D reference high sense input", 37 VOUTC (out) "DAC C output voltage", 38 VOUTC SENSE (in) "DAC C's output amplifier inverting input. Used to close the feedback loop at the load.", 39 VOUTB (out) "DAC B output voltage", 40 VOUTB SENSE (in) "DAC B's output amplifier inverting input. Used to close the feedback loop at the load.", 41 VREFH AB SENSE (in) "DAC A and B reference high sense input", 42 VREFH AB (in) "DAC A and B reference high input", 43 VREFL AB (in) "DAC A and B reference low input", 44 VREFL AB SENSE (in) "DAC A and B reference low sense input", 47 VOUTA (out) "DAC A output voltage", 48 VOUTA SENSE (in) "DAC A's output amplifier inverting input. Used to close the feedback loop at the load."
part B pins: 4 DGND (power) "Digital ground", 6 DGND (power) "Digital ground", 8 DGND (power) "Digital ground", 10 DGND (power) "Digital ground", 12 DGND (power) "Digital ground", 14 DGND (power) "Digital ground", 16 DGND (power) "Digital ground", 18 DGND (power) "Digital ground", 21 DGND (power) "Digital ground", 22 DGND (power) "Digital ground", 23 VDD (power) "Digital 5-V power supply", 24 VDD (power) "Digital 5-V power supply", 25 VCC (power) "Analog +5-V power supply", 26 VCC (power) "Analog +5-V power supply", 27 AGND (power) "Analog ground", 28 AGND (power) "Analog ground", 29 VSS (power) "Analog +5V power supply or 0V single supply", 30 VSS (power) "Analog +5V power supply or 0V single supply", 45 VSS (power) "Analog -5V power supply or 0V single supply", 46 AGND (power) "Analog ground"

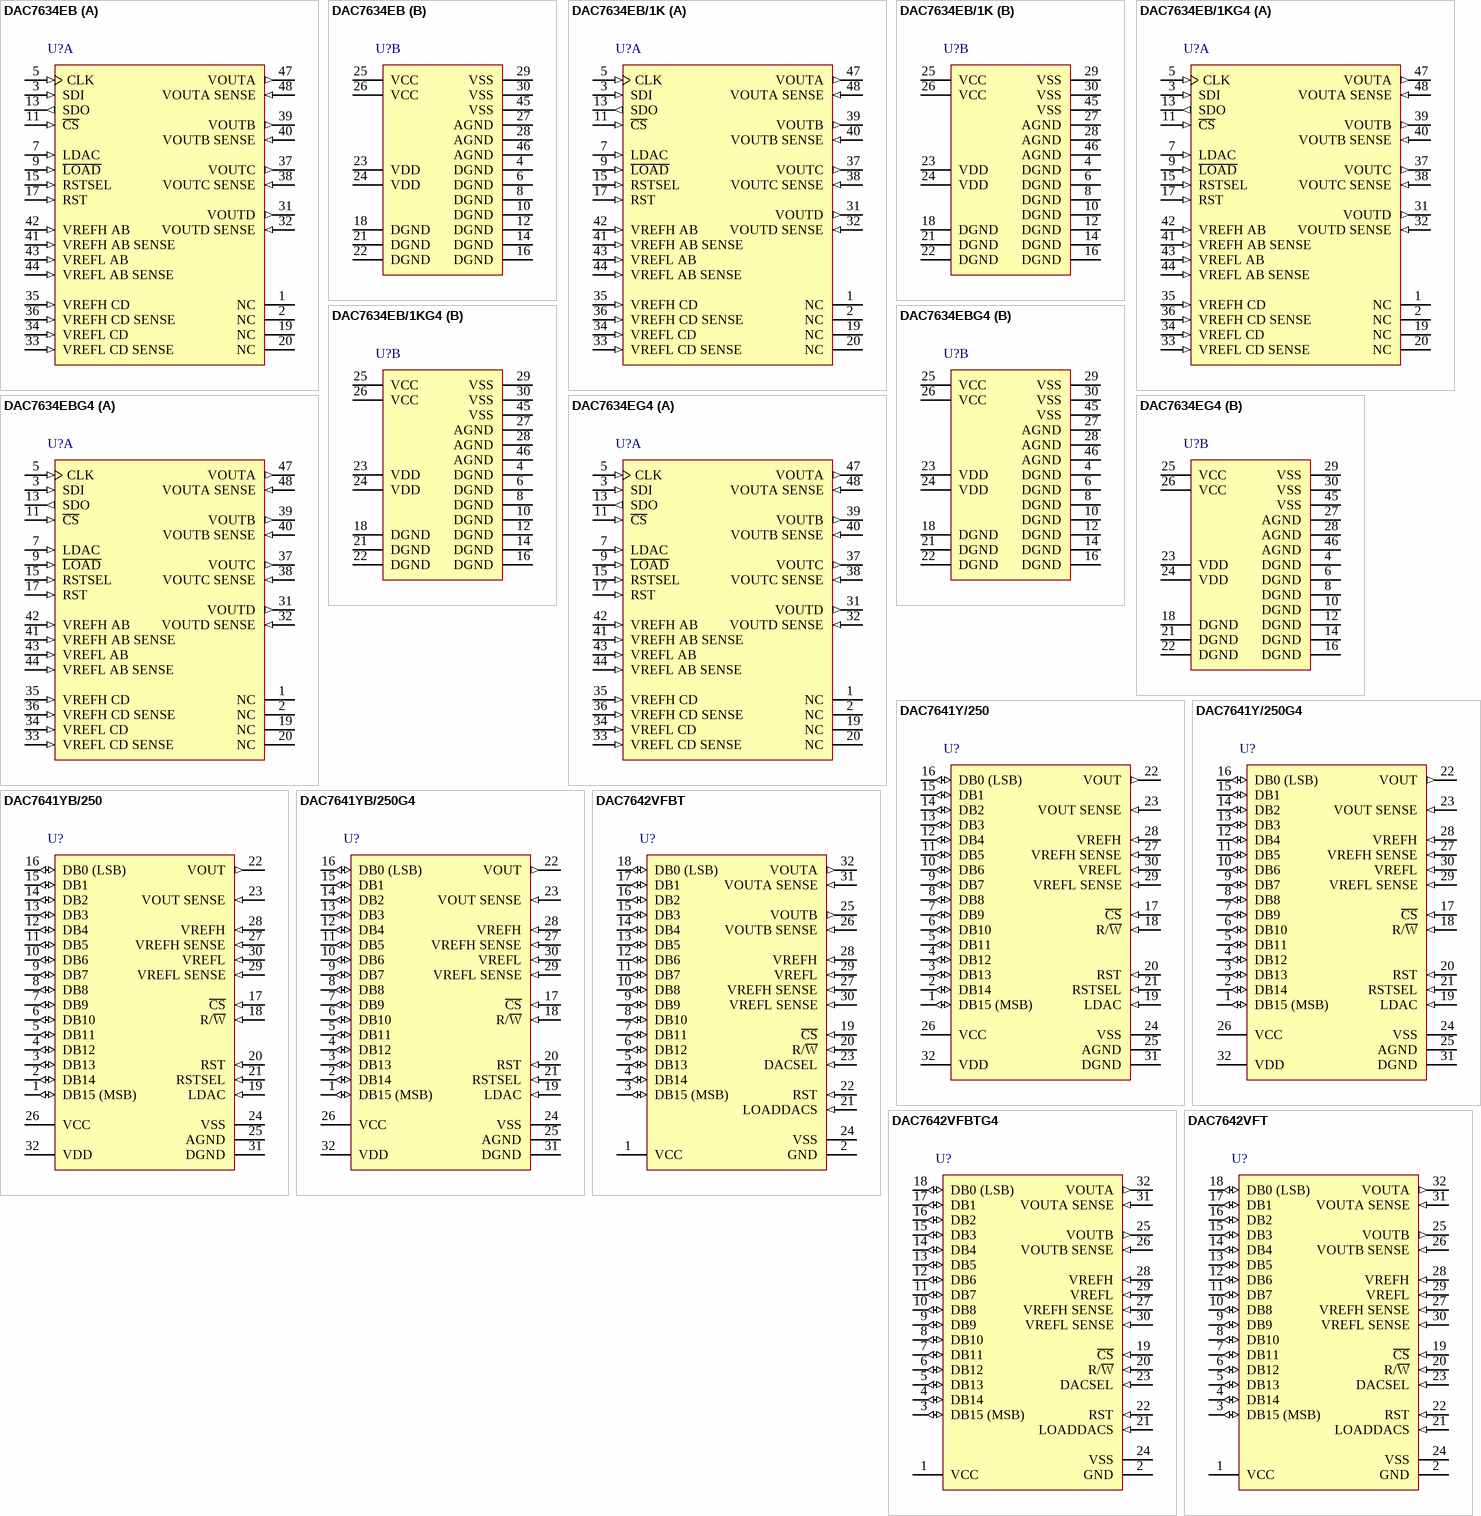
[diagram p31: symbols DAC7634EB to DAC7642VFT]

## DAC7634EB
designator U?
16-Bit, Quad Voltage Output DAC, -40 to 85 degC, 48-pin SOP (DL48), Green (RoHS & no Sb/Br); Manufacturer: Texas Instruments; PartNumber: DAC7634EB; DAC Channels: 4; DNL(Max)(+/-LSB): 2; INL(Max)(+/-LSB): 3; Interface: Serial SPI; Power Consumption(Typ)(mW): 15; Resolution(Bits): 16; Settling Time(us): 10; SubFamily: Precision DAC (=<10MSPS); DatasheetVersion: SBAS134B; PackageVersion: 4040048/E, 12/2001; PackageReference: DL48; PackageDescription: 48-Pin Plastic Small Outline, Body 7.49 x 15.88 mm, Pitch 0.635 mm; Supplier 1: Digi-Key; Supplier Part Number 1: DAC7634EB-ND; Supplier 2: Newark; Supplier Part Number 2: 74C9221; Supplier 3: Mouser; Supplier Part Number 3: 595-DAC7634EB; Eco-Plan: Green (RoHS & no Sb/Br); Mounting Technology: Surface Mount; Code_JEDEC: MO-118; ComponentLink1Description: Manufacturer URL; ComponentLink1URL: http://www.ti.com/; ComponentLink2Description: Datasheet; ComponentLink2URL: http://www.ti.com/general/docs/lit/getliterature.tsp?genericPartNumber=DAC7634&fileType=pdf; ComponentLink3Description: Package Specification; ComponentLink3URL: http://www.ti.com/lit/ml/msso001c/msso001c.pdf
footprint TI-DL48_N (SOP, 48-Leads, Body 15.88x7.49mm, Pitch 0.635mm, IPC Medium Density)
footprint TI-DL48_L (SOP, 48-Leads, Body 15.88x7.49mm, Pitch 0.635mm, IPC High Density)
footprint TI-DL48_M (SOP, 48-Leads, Body 15.88x7.49mm, Pitch 0.635mm, IPC Low Density)
part A pins: 1 NC "No connection", 2 NC "No connection", 3 SDI (in) "Serial data input", 5 CLK (in) "Data clock input", 7 LDAC (in) "DAC register load control, rising edge triggered", 9 ~{LOAD} (in) "DAC input register load control, active low", 11 ~{CS} (in) "Chip select, active low", 13 SDO (out) "Serial data output", 15 RSTSEL (in) "Reset Select. Determines the action of RST. If  HIGH, a RST common sets the DAC registers to mid-scale (8000 H). If LOW, a RST command sets the DAC registers to zero (0000H).", 17 RST (in) "Reset, rising edge triggered. Depending on the state of RSTSEL, the DAC registers are set to either mid-scale or zero.", 19 NC "No connection", 20 NC "No connection", 31 VOUTD (out) "DAC D output voltage", 32 VOUTD SENSE (in) "DAC D's output amplifier inverting input. Used to close feedback loop at load.", 33 VREFL CD SENSE (in) "DAC C and D reference low sense input", 34 VREFL CD (in) "DAC C and D reference low input", 35 VREFH CD (in) "DAC C and D reference high input", 36 VREFH CD SENSE (in) "DAC C and D reference high sense input", 37 VOUTC (out) "DAC C output voltage", 38 VOUTC SENSE (in) "DAC C's output amplifier inverting input. Used to close the feedback loop at the load.", 39 VOUTB (out) "DAC B output voltage", 40 VOUTB SENSE (in) "DAC B's output amplifier inverting input. Used to close the feedback loop at the load.", 41 VREFH AB SENSE (in) "DAC A and B reference high sense input", 42 VREFH AB (in) "DAC A and B reference high input", 43 VREFL AB (in) "DAC A and B reference low input", 44 VREFL AB SENSE (in) "DAC A and B reference low sense input", 47 VOUTA (out) "DAC A output voltage", 48 VOUTA SENSE (in) "DAC A's output amplifier inverting input. Used to close the feedback loop at the load."
part B pins: 4 DGND (power) "Digital ground", 6 DGND (power) "Digital ground", 8 DGND (power) "Digital ground", 10 DGND (power) "Digital ground", 12 DGND (power) "Digital ground", 14 DGND (power) "Digital ground", 16 DGND (power) "Digital ground", 18 DGND (power) "Digital ground", 21 DGND (power) "Digital ground", 22 DGND (power) "Digital ground", 23 VDD (power) "Digital 5-V power supply", 24 VDD (power) "Digital 5-V power supply", 25 VCC (power) "Analog +5-V power supply", 26 VCC (power) "Analog +5-V power supply", 27 AGND (power) "Analog ground", 28 AGND (power) "Analog ground", 29 VSS (power) "Analog +5V power supply or 0V single supply", 30 VSS (power) "Analog +5V power supply or 0V single supply", 45 VSS (power) "Analog -5V power supply or 0V single supply", 46 AGND (power) "Analog ground"